# Altium footprint library ABS10_4.9X1.8.PcbLib: 1 footprints
Each footprint in its own frame and in the unit in brackets; x right, y up, seen from the top. Pads: shape width x height; smd on the part's side, far side on the other; paste and mask are expansions set on the pad; w line width, h text height; cw(c..) or ccw(c..) is an arc to the next point about the centre after c.
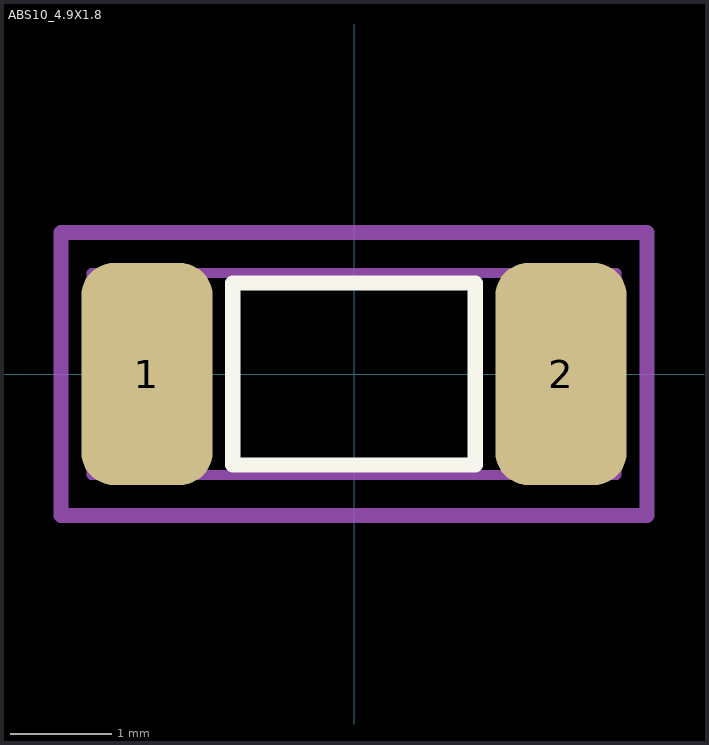
[diagram p0: the footprint, top view; thin cyan lines are the x and y axes]

## ABS10_4.9X1.8 [mm]
pads (2):
  rrect50% 1.3x2.2 smd: 1(-2.05,0) 2(2.05,0)
Top Overlay:
  lines w0.15: -1.2,-0.9 1.2,-0.9 1.2,0.9 -1.2,0.9 -1.2,-0.9
Top Assembly:
  lines w0.1: -2.1,-0.8 -2.1,0.7 ; -2.6,-1 2.6,-1 2.6,1 -2.6,1 -2.6,-1
  text "'.Designator'" at -1.7,0.2 h0.3
Top Courtyard:
  lines w0.15: -2.9,-1.4 2.9,-1.4 2.9,1.4 -2.9,1.4 -2.9,-1.4
3D body "User Library-ASB 10.step": height 1, standoff 0, extent -2.45,-0.9 2.45,0.9